# Altium schematic symbol library RASPBERRY_PI_PICO.SchLib: 1 symbol
Pins are listed as number, name and electrical type; pins without a type are passive.

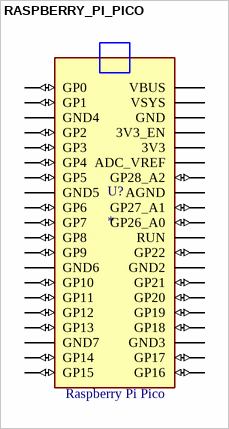
[diagram p0: symbol RASPBERRY_PI_PICO]

## RASPBERRY_PI_PICO
designator U?
Raspberry Pi Board, Arm Cortex-M0+; Core Architecture:Arm; Core Sub-Architecture:Cortex-M0+; Kit Contents:Raspberry Pi Pico Board; No. Of Bits:32Bit; Silicon Core Number:Rp2040; Silicon Manufacturer:Raspberry Pi |Raspberry-Pi RASPBERRY PI PICO; SnapEDA_Link: https://www.snapeda.com/parts/RASPBERRY%20PI%20PICO/Raspberry+Pi/view-part/?ref=snap; Package: None; Value: *; MF: Raspberry Pi; MP: RASPBERRY PI PICO; Check_prices: https://www.snapeda.com/parts/RASPBERRY%20PI%20PICO/Raspberry+Pi/view-part/?ref=eda
footprint RASPBERRY_PI_PICO
pins: 3V3, 3V3_EN, ADC_VREF, AGND, GND, GND2, GND3, GND4, GND5, GND6, GND7, GP0 (io), GP1 (io), GP2 (io), GP3 (io), GP4 (io), GP5 (io), GP6 (io), GP7 (io), GP8 (io), GP9 (io), GP10 (io), GP11 (io), GP12 (io), GP13 (io), GP14 (io), GP15 (io), GP16 (io), GP17 (io), GP18 (io), GP19 (io), GP20 (io), GP21 (io), GP22 (io), GP26_A0 (io), GP27_A1 (io), GP28_A2 (io), RUN, VBUS, VSYS
text: Raspberry Pi Pico